# EAGLE library part WMOI3_TH_NO_OUTLINE (library WMOi3)
Wavecom WMOi3 GSM Modem connected with ribbon cable to Harwin M50-3602542 1.27mm Pitch DIL Through Hole Pin Header. Without module outline or mounting holes.
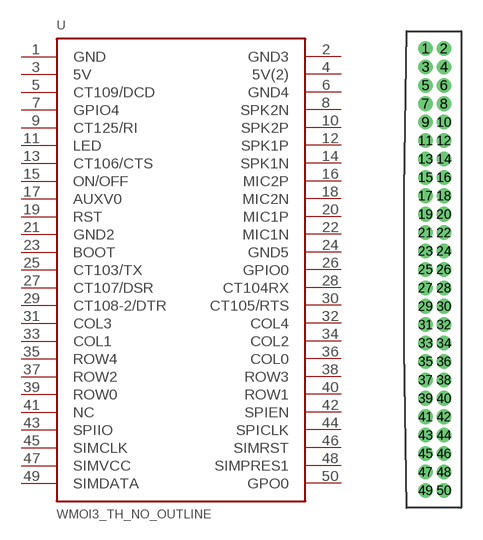
[diagram p3: symbol with the pads of WMOI3_TH_NO_OUTLINE; footprint WMOI3_TH_NO_OUTLINE]

Designator prefix -

## WMOI3_TH_NO_OUTLINE  [WMOI3_TH_NO_OUTLINE]
1  GND
2  GND3
3  5V
4  5V(2)
5  CT109/DCD
6  GND4
7  GPIO4
8  SPK2N
9  CT125/RI
10  SPK2P
11  LED
12  SPK1P
13  CT106/CTS
14  SPK1N
15  ON/OFF
16  MIC2P
17  AUXV0
18  MIC2N
19  RST
20  MIC1P
21  GND2
22  MIC1N
23  BOOT
24  GND5
25  CT103/TX
26  GPIO0
27  CT107/DSR
28  CT104RX
29  CT108-2/DTR
30  CT105/RTS
31  COL3
32  COL4
33  COL1
34  COL2
35  ROW4
36  COL0
37  ROW2
38  ROW3
39  ROW0
40  ROW1
41  NC
42  SPIEN
43  SPIIO
44  SPICLK
45  SIMCLK
46  SIMRST
47  SIMVCC
48  SIMPRES1
49  SIMDATA
50  GPO0

## Footprint WMOI3_TH_NO_OUTLINE (pad centres in mm)
drill 0.5: 1 -1.1,15.73; 2 0.17,15.73; 3 -1.1,14.46; 4 0.17,14.46; 5 -1.1,13.19; 6 0.17,13.19; 7 -1.1,11.92; 8 0.17,11.92; 9 -1.1,10.65; 10 0.17,10.65; 11 -1.1,9.38; 12 0.17,9.38; 13 -1.1,8.11; 14 0.17,8.11; 15 -1.1,6.84; 16 0.17,6.84; 17 -1.1,5.57; 18 0.17,5.57; 19 -1.1,4.3; 20 0.17,4.3; 21 -1.1,3.03; 22 0.17,3.03; 23 -1.1,1.76; 24 0.17,1.76; 25 -1.1,0.49; 26 0.17,0.49; 27 -1.1,-0.78; 28 0.17,-0.78; 29 -1.1,-2.05; 30 0.17,-2.05; 31 -1.1,-3.32; 32 0.17,-3.32; 33 -1.1,-4.59; 34 0.17,-4.59; 35 -1.1,-5.86; 36 0.17,-5.86; 37 -1.1,-7.13; 38 0.17,-7.13; 39 -1.1,-8.4; 40 0.17,-8.4; 41 -1.1,-9.67; 42 0.17,-9.67; 43 -1.1,-10.94; 44 0.17,-10.94; 45 -1.1,-12.21; 46 0.17,-12.21; 47 -1.1,-13.48; 48 0.17,-13.48; 49 -1.1,-14.75; 50 0.17,-14.75